# Altium schematic symbol library Power-DCDC-PW2052B.SchLib: 1 symbol
Pins are listed as number, name and electrical type; pins without a type are passive.

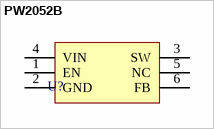
[diagram p0: symbol PW2052B]

## PW2052B
designator U?
pins: 1 EN, 2 GND, 3 SW, 4 VIN, 5 NC, 6 FB